# Altium footprint library 26013144.PcbLib: 1 footprints
Each footprint in its own frame and in the unit in brackets; x right, y up, seen from the top. Pads: shape width x height; smd on the part's side, far side on the other; paste and mask are expansions set on the pad; w line width, h text height; cw(c..) or ccw(c..) is an arc to the next point about the centre after c.
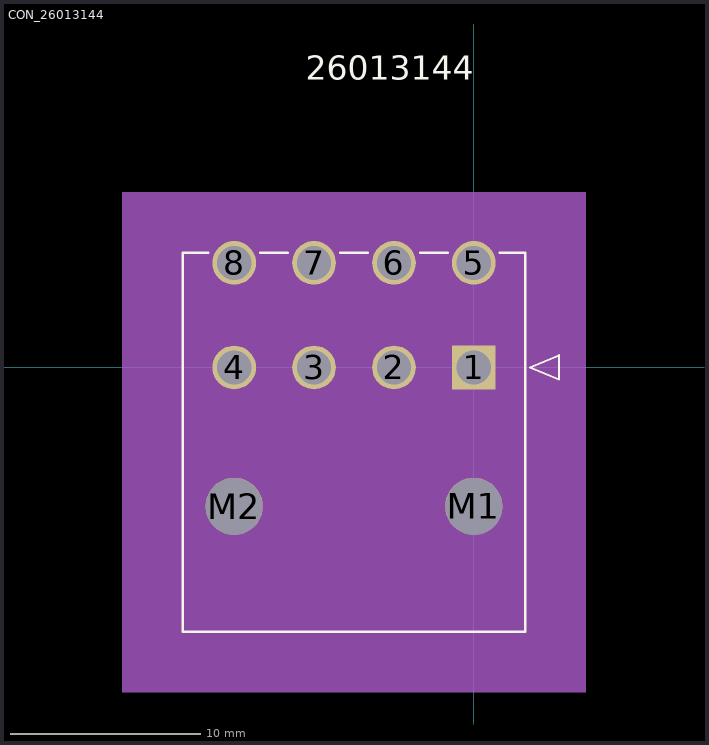
[diagram p0: the footprint, top view; thin cyan lines are the x and y axes]

## CON_26013144 [mm]
pads (10):
  rect 2.3x2.3 hole 1.8 mask+0.076: 1(0,0)
  round 2.3 hole 1.8 mask+0.076: 2(-4.2,0) 3(-8.4,0) 4(-12.6,0) 5(0,5.5) 6(-4.2,5.5) 7(-8.4,5.5) 8(-12.6,5.5)
  round 3 hole 3 unplated mask+0.076: M1(0,-7.3) M2(-12.6,-7.3)
Top Overlay:
  lines w0.127: -13.969,6.035 -15.3,6.035 -15.3,-13.9 2.7,-13.9 2.7,6.035 1.369,6.035 ; -11.231,6.035 -9.769,6.035 ; -7.031,6.035 -5.569,6.035 ; -2.831,6.035 -1.369,6.035 ; 2.954,0 4.478,0.635 4.478,-0.635 2.954,0
  text "26013144" at -8.84,15.118 h1.27
Mechanical 3:
  text "PTH_DRILL_SIZE:_1.8_MM,_TOL:_+0.05/-0.05" at -19,-20.442 h1.27
  text "NPTH_DRILL_SIZE:_3.0_MM,_TOL:_+0.05/-0.05" at -19.317,-22.982 h1.27
Mechanical 5:
  region: -18.475,9.21 5.875,9.21 5.875,-17.075 -18.475,-17.075
Mechanical 10:
  text "PTH_DRILL_SIZE:_1.8_MM,_TOL:_+0.05/-0.05" at -19,-20.442 h1.27
  text "NPTH_DRILL_SIZE:_3.0_MM,_TOL:_+0.05/-0.05" at -19.317,-22.982 h1.27
Mechanical 13:
  lines w0.127: -15.3,-13.9 2.7,-13.9 2.7,6.035 -15.3,6.035 -15.3,-13.9 ; 2.954,0 4.478,0.635 4.478,-0.635 2.954,0
  text "26013144" at -8.84,15.118 h1.27
Mechanical 15:
  region: 3.97,7.305 -16.57,7.305 -16.57,-15.17 3.97,-15.17
  lines w0.127: -16.57,-15.17 -16.57,7.305 3.97,7.305 3.97,-15.17 -16.57,-15.17
3D body: height 0.25, standoff 0, extent 0,0 0.254,0.254